# Altium footprint library NODES.PcbLib: 33 footprints (part 2 of 3)
Each footprint in its own frame and in the unit in brackets; x right, y up, seen from the top. Pads: shape width x height; smd on the part's side, far side on the other; paste and mask are expansions set on the pad; w line width, h text height; cw(c..) or ccw(c..) is an arc to the next point about the centre after c.
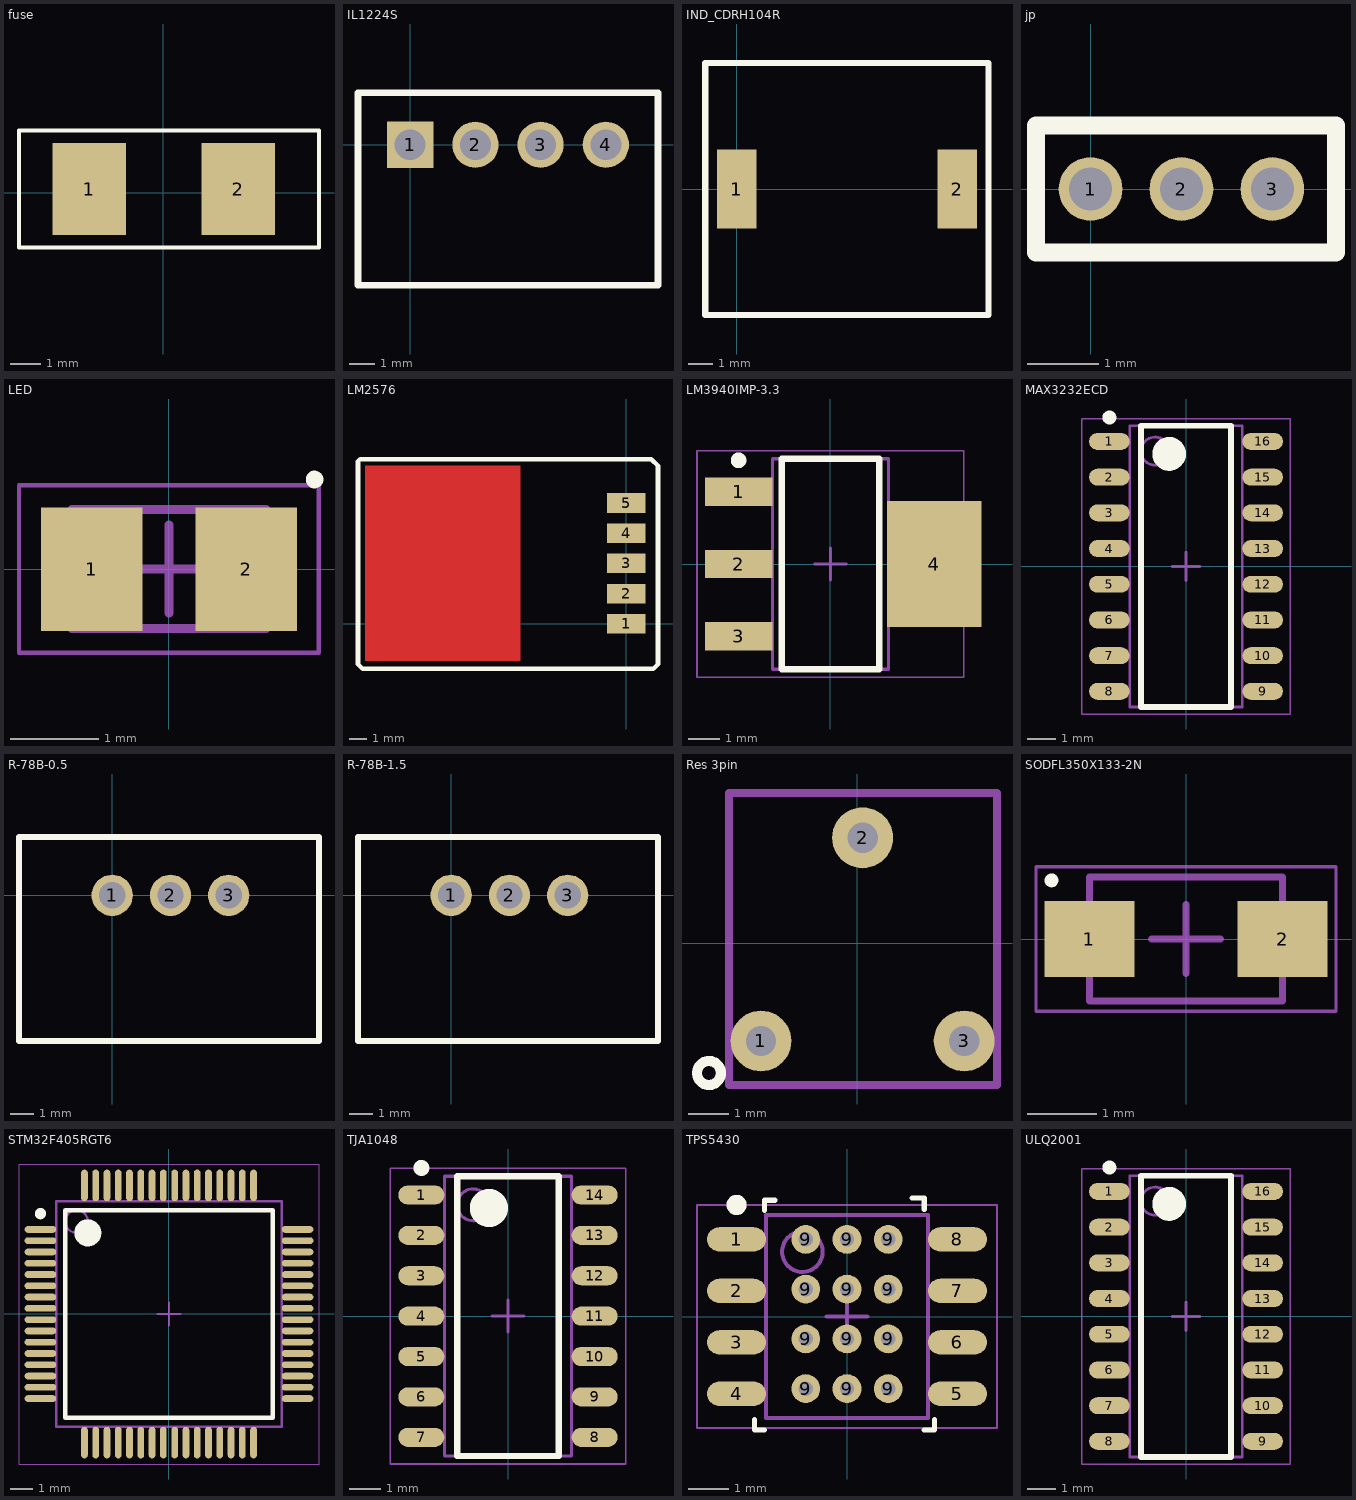
[diagram p1: the footprints below, top view; thin cyan lines are the x and y axes]

## fuse [mm]
pads (2):
  rect 2.4x3 smd: 1(-2.413,0.127) 2(2.447,0.127)
Top Overlay:
  lines w0.127: -4.699,-1.778 -4.699,2.032 5.08,2.032 5.08,-1.778 -4.699,-1.778
3D body "0157Series.stp": height 3.96, standoff 0, extent -4.699,-1.727 4.953,1.981

## IL1224S [mm]
pads (4):
  rect 1.8x1.8 hole 1.2: 1(0,0)
  round 1.8 hole 1.2: 2(2.54,0) 3(5.08,0) 4(7.62,0)
Top Overlay:
  lines w0.254: -2.03,-5.48 9.65,-5.48 9.65,2.03 -2.03,2.03 -2.03,0 -2.03,-5.48
3D body: height 10.6, standoff 0, extent -2.032,-5.461 9.652,2.032

## IND_CDRH104R [mm]
pads (2):
  rect 1.6x3.2 smd: 1(0,0) 2(8.9,0)
Top Overlay:
  lines w0.254: -1.27,-5.08 -1.27,3.81 -1.27,5.08 10.16,5.08 10.16,-5.08 -1.27,-5.08
3D body: height 3, standoff 0, extent 1.651,-1.905 7.239,1.905
3D body: height 3, standoff 0, extent -1.27,-1.905 1.651,1.905
3D body: height 3, standoff 0, extent -1.27,-5.08 10.16,-1.905
3D body: height 3, standoff 0, extent -1.27,1.905 10.16,5.08
3D body: height 3, standoff 0, extent 7.239,-1.905 10.16,1.905

## jp [mil]
pads (3):
  round 35 hole 23.62: 1(0,0) 2(50,0) 3(100,0)
Top Overlay:
  lines w10: -30,-35 135,-35 135,35 -30,35 -30,-35

## LED [mm]
pads (2):
  rect 1.15x1.4 smd: 1(-0.875,0) 2(0.875,0)
Top Overlay:
  circle w0.1: c1.651,1.016 r0.05
Mechanical 13:
  lines w0.1: -1.1,-0.675 1.1,-0.675 1.1,0.675 -1.1,0.675 -1.1,-0.675
Mechanical 15:
  lines w0.05: -1.7,-0.95 1.7,-0.95 1.7,0.95 -1.7,0.95 -1.7,-0.95
  lines w0.1: -0.5,0 0.5,0 ; 0,-0.5 0,0.5
3D body: height 0.65, standoff 0, extent 0.75,-0.675 1.1,0.675
3D body: height 0.65, standoff 0, extent -1.1,-0.675 -0.75,0.675
3D body: height 1, standoff 0, extent -0.495,-0.498 0.5,0.498
3D body: height 0.4, standoff 0, extent -0.889,-0.762 0.889,0.762

## LM2576 [mm]
pads (5):
  rect 2.16x1.1 smd: 1(0,0) 2(0,1.7) 3(0,3.4) 4(0,5.1) 5(0,6.8)
Top Layer:
  rectangle: -14.732,-2.1 -5.969,8.9
Top Overlay:
  lines w0.254: -15.113,-2.286 -14.859,-2.54 1.524,-2.54 1.778,-2.286 1.778,8.89 1.397,9.271 -14.986,9.271 -15.113,9.144 -15.113,9.017 -15.113,-2.286
3D body: height 1, standoff 0, extent -1.524,6.35 0.889,7.366
3D body: height 4, standoff 1, extent -1.524,6.35 -0.889,7.366
3D body: height 4, standoff 3, extent -3.81,6.35 -1.524,7.366
3D body: height 6, standoff 0, extent -14.859,-2.286 -3.81,9.017
3D body: height 4, standoff 3, extent -3.81,4.572 -1.524,5.588
3D body: height 4, standoff 1, extent -1.524,4.572 -0.889,5.588
3D body: height 1, standoff 0, extent -1.524,4.572 0.889,5.588
3D body: height 4, standoff 3, extent -3.81,2.921 -1.524,3.937
3D body: height 4, standoff 1, extent -1.524,2.921 -0.889,3.937
3D body: height 1, standoff 0, extent -1.524,2.921 0.889,3.937
3D body: height 4, standoff 3, extent -3.81,1.143 -1.524,2.159
3D body: height 4, standoff 1, extent -1.524,1.143 -0.889,2.159
3D body: height 1, standoff 0, extent -1.524,1.143 0.889,2.159
3D body: height 4, standoff 3, extent -3.81,-0.508 -1.524,0.508
3D body: height 4, standoff 1, extent -1.524,-0.508 -0.889,0.508
3D body: height 1, standoff 0, extent -1.524,-0.508 0.889,0.508

## LM3940IMP-3.3 [mm] "SOT223, 4-Leads, Body 6.50x7.00mm (avg), Pitch 2.30mm, IPC Medium Density"
height 1.8
pads (4):
  rect 2.15x0.9 smd: 1(-2.925,2.3) 2(-2.925,0) 3(-2.925,-2.3)
  rect 3x4 smd: 4(3.302,0)
Top Overlay:
  circle w0.25: c-2.925,3.3 r0.125
  lines w0.2: -1.55,-3.35 -1.55,3.35 1.55,3.35 1.55,-3.35 -1.55,-3.35
Mechanical 13:
  lines w0.1: -1.85,-3.35 -1.85,3.35 1.85,3.35 1.85,-3.35 -1.85,-3.35
Mechanical 15:
  lines w0.05: -4.25,-3.6 -4.25,3.6 4.25,3.6 4.25,-3.6 -4.25,-3.6
  lines w0.1: -0.5,0 0.5,0 ; 0,-0.5 0,0.5
3D body: height 1.8, standoff 0.02, extent -1.85,-3.35 1.85,3.35

## MAX3232ECD [mm]
height 1.75
pads (16):
  oval 1.45x0.6 smd: 1(-2.725,4.445) 2(-2.725,3.175) 3(-2.725,1.905) 4(-2.725,0.635) 5(-2.725,-0.635) 6(-2.725,-1.905) 7(-2.725,-3.175) 8(-2.725,-4.445) 9(2.725,-4.445) 10(2.725,-3.175) 11(2.725,-1.905) 12(2.725,-0.635) 13(2.725,0.635) 14(2.725,1.905) 15(2.725,3.175) 16(2.725,4.445)
Top Overlay:
  circle w0.6: c-0.6,4 r0.3
  circle w0.25: c-2.725,5.295 r0.125
  lines w0.2: -1.6,-5 1.6,-5 1.6,5 -1.6,5 -1.6,-5
Mechanical 13:
  circle w0.1: c-1.1,4.1 r0.5
  lines w0.1: -2,-5 2,-5 2,5 -2,5 -2,-5
Mechanical 15:
  lines w0.05: -3.7,-5.25 3.7,-5.25 3.7,5.25 -3.7,5.25 -3.7,-5.25
  lines w0.1: -0.5,0 0.5,0 ; 0,-0.5 0,0.5
3D body: height 1.75, standoff 0.1, extent -2,-5 2,5

## R-78B-0.5 [mm]
pads (3):
  round 1.8 hole 1.15: 1(0,0) 2(2.54,0) 3(5.08,0)
Top Overlay:
  lines w0.254: -4.064,-6.35 9.017,-6.35 9.017,2.54 0,2.54 -4.064,2.54 -4.064,-6.35
3D body: height 11, standoff 0, extent -4.064,-6.35 9.017,2.54

## R-78B-1.5 [mm]
pads (3):
  round 1.8 hole 1.15: 1(0,0) 2(2.54,0) 3(5.08,0)
Top Overlay:
  lines w0.254: -4.064,-6.35 9.017,-6.35 9.017,2.54 0,2.54 -4.064,2.54 -4.064,-6.35
3D body: height 18, standoff 0, extent -4.064,-6.35 9.017,2.54

## Res 3pin [mil]
pads (3):
  round 60 hole 30: 1(-94.96,-96.26) 2(5.04,103.74) 3(105.04,-96.26)
Top Overlay:
  circle w10: c-146.14,-127.76 r11.81
Mechanical 1:
  lines w7.87: -126.46,-139.57 -126.46,147.83 -59.53,147.83 46.77,147.83 90.08,147.83 137.32,147.83 137.32,49.41 137.32,-139.57 -126.46,-139.57
3D body: height 190.16, standoff 19.68, extent -126.46,-139.57 137.32,147.83

## SODFL350X133-2N [mm] "SODFL, 2-Leads, Body 1.60x3.50mm, IPC Medium Density"
height 1.33
pads (2):
  rect 1.3x1.1 smd: 1(-1.4,0) 2(1.4,0)
Top Overlay:
  circle w0.1: c-1.95,0.85 r0.05
Mechanical 13:
  lines w0.1: -1.4,-0.9 1.4,-0.9 1.4,0.9 -1.4,0.9 -1.4,-0.9
Mechanical 15:
  lines w0.05: -2.175,-1.05 2.175,-1.05 2.175,1.05 -2.175,1.05 -2.175,-1.05
  lines w0.1: -0.5,0 0.5,0 ; 0,-0.5 0,0.5
3D body: height 1.33, standoff 0, extent -1.4,-0.9 1.4,0.9

## STM32F405RGT6 [mm] "TSQFP, 64-Leads, Body 10.00x10.00mm, Pitch 0.50mm, IPC Medium Density"
height 1.6
pads (64):
  oval 1.4x0.3 smd: 1(-5.7,3.75) 2(-5.7,3.25) 3(-5.7,2.75) 4(-5.7,2.25) 5(-5.7,1.75) 6(-5.7,1.25) 7(-5.7,0.75) 8(-5.7,0.25) 9(-5.7,-0.25) 10(-5.7,-0.75) 11(-5.7,-1.25) 12(-5.7,-1.75) 13(-5.7,-2.25) 14(-5.7,-2.75) 15(-5.7,-3.25) 16(-5.7,-3.75) 33(5.7,-3.75) 34(5.7,-3.25) 35(5.7,-2.75) 36(5.7,-2.25) 37(5.7,-1.75) 38(5.7,-1.25) 39(5.7,-0.75) 40(5.7,-0.25) 41(5.7,0.25) 42(5.7,0.75) 43(5.7,1.25) 44(5.7,1.75) 45(5.7,2.25) 46(5.7,2.75) 47(5.7,3.25) 48(5.7,3.75)
  oval 0.3x1.4 smd: 17(-3.75,-5.7) 18(-3.25,-5.7) 19(-2.75,-5.7) 20(-2.25,-5.7) 21(-1.75,-5.7) 22(-1.25,-5.7) 23(-0.75,-5.7) 24(-0.25,-5.7) 25(0.25,-5.7) 26(0.75,-5.7) 27(1.25,-5.7) 28(1.75,-5.7) 29(2.25,-5.7) 30(2.75,-5.7) 31(3.25,-5.7) 32(3.75,-5.7) 49(3.75,5.7) 50(3.25,5.7) 51(2.75,5.7) 52(2.25,5.7) 53(1.75,5.7) 54(1.25,5.7) 55(0.75,5.7) 56(0.25,5.7) 57(-0.25,5.7) 58(-0.75,5.7) 59(-1.25,5.7) 60(-1.75,5.7) 61(-2.25,5.7) 62(-2.75,5.7) 63(-3.25,5.7) 64(-3.75,5.7)
Top Overlay:
  circle w0.6: c-3.6,3.6 r0.3
  circle w0.25: c-5.7,4.45 r0.125
  lines w0.2: -4.6,-4.6 4.6,-4.6 4.6,4.6 -4.6,4.6 -4.6,-4.6
Mechanical 13:
  circle w0.1: c-4.1,4.1 r0.5
  lines w0.1: -5,-5 5,-5 5,5 -5,5 -5,-5
Mechanical 15:
  lines w0.05: -6.65,-6.65 6.65,-6.65 6.65,6.65 -6.65,6.65 -6.65,-6.65
  lines w0.1: -0.5,0 0.5,0 ; 0,-0.5 0,0.5
3D body: height 1.6, standoff 0.05, extent -5,-5 5,5

## TJA1048 [mm] "SOIC, 14-Leads, Body 8.65x3.90mm, Pitch 1.27mm, IPC Medium Density"
height 1.75
pads (14):
  oval 1.45x0.6 smd: 1(-2.725,3.81) 2(-2.725,2.54) 3(-2.725,1.27) 4(-2.725,0) 5(-2.725,-1.27) 6(-2.725,-2.54) 7(-2.725,-3.81) 8(2.725,-3.81) 9(2.725,-2.54) 10(2.725,-1.27) 11(2.725,0) 12(2.725,1.27) 13(2.725,2.54) 14(2.725,3.81)
Top Overlay:
  circle w0.25: c-2.725,4.66 r0.125
  circle w0.6: c-0.6,3.4 r0.3
  lines w0.2: -1.6,-4.4 -1.6,4.4 1.6,4.4 1.6,-4.4 -1.6,-4.4
Mechanical 13:
  circle w0.1: c-1.1,3.5 r0.5
  lines w0.1: -2,-4.4 -2,4.4 2,4.4 2,-4.4 -2,-4.4
Mechanical 15:
  lines w0.05: -3.7,-4.65 -3.7,4.65 3.7,4.65 3.7,-4.65 -3.7,-4.65
  lines w0.1: -0.5,0 0.5,0 ; 0,-0.5 0,0.5
3D body: height 1.75, standoff 0.1, extent -2,-4.4 2,4.4

## TPS5430 [mil]
height 68.9
pads (20):
  oval 57.09x23.62 smd: 1(-107.28,75) 2(-107.28,25) 3(-107.28,-25) 4(-107.28,-75) 5(107.28,-75) 6(107.28,-25) 7(107.28,25) 8(107.28,75)
  round 28 hole 14: 9(-40,-70) 9(-40,-21.67) 9(-40,26.67) 9(-40,75) 9(0,-70) 9(0,-21.67) 9(0,26.67) 9(0,75) 9(40,-70) 9(40,-21.67) 9(40,26.67) 9(40,75)
Top Overlay:
  circle w9.84: c-107.28,108.46 r4.92
  lines w5: -90,-100 -90,-105 -90,-110 -80,-110 ; -80,103 -80,110 -80,113 -70,113 ; 63,115 75,115 75,104 ; 75,-110 85,-110 85,-100
Bottom Solder:
  region: -125,110 -125,-110 120,-110 120,110
Mechanical 13:
  circle w3.94: c-43.31,62.99 r19.68
  lines w3.94: -78.74,-98.43 78.74,-98.43 78.74,98.43 -78.74,98.43 -78.74,-98.43
Mechanical 15:
  lines w1.97: -145.67,-108.27 145.67,-108.27 145.67,108.27 -145.67,108.27 -145.67,-108.27
  lines w3.94: -19.69,0 19.68,0 ; 0,-19.68 0,19.68
3D body: height 68.9, standoff 5.91, extent -78.74,-98.43 78.74,98.43

## ULQ2001 [mm] "darlington array"
height 1.75
pads (16):
  oval 1.45x0.6 smd: 1(-2.725,4.445) 2(-2.725,3.175) 3(-2.725,1.905) 4(-2.725,0.635) 5(-2.725,-0.635) 6(-2.725,-1.905) 7(-2.725,-3.175) 8(-2.725,-4.445) 9(2.725,-4.445) 10(2.725,-3.175) 11(2.725,-1.905) 12(2.725,-0.635) 13(2.725,0.635) 14(2.725,1.905) 15(2.725,3.175) 16(2.725,4.445)
Top Overlay:
  circle w0.6: c-0.6,4 r0.3
  circle w0.25: c-2.725,5.295 r0.125
  lines w0.2: -1.6,-5 1.6,-5 1.6,5 -1.6,5 -1.6,-5
Mechanical 13:
  circle w0.1: c-1.1,4.1 r0.5
  lines w0.1: -2,-5 2,-5 2,5 -2,5 -2,-5
Mechanical 15:
  lines w0.05: -3.7,-5.25 3.7,-5.25 3.7,5.25 -3.7,5.25 -3.7,-5.25
  lines w0.1: -0.5,0 0.5,0 ; 0,-0.5 0,0.5
3D body: height 1.75, standoff 0.1, extent -2,-5 2,5